# EAGLE library part LORA_433T30D (library SpatMuy2022)
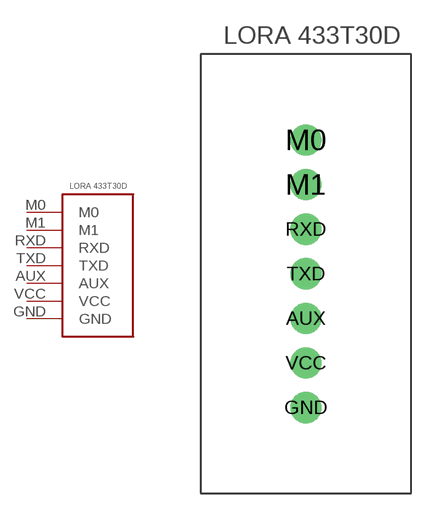
[diagram p4: symbol with the pads of LORA_433T30D; footprint LORA_433T30D]

Designator prefix -

## LORA_433T30D  [LORA_433T30D]
AUX  AUX
GND  GND
M0  M0
M1  M1
RXD  RXD
TXD  TXD
VCC  VCC

## Footprint LORA_433T30D (pad centres in mm)
drill 0.9 pad 1.778: AUX 0,-2.54; GND 0,-7.62; M0 0,7.62; M1 0,5.08; RXD 0,2.54; TXD 0,0; VCC 0,-5.08